# EAGLE library part MAX889RESA (library MAX889RESA)
Check prices <https://pricing.snapeda.com/parts/MAX889RESA%2B/Maxim%20Integrated/view-part?ref=eda>
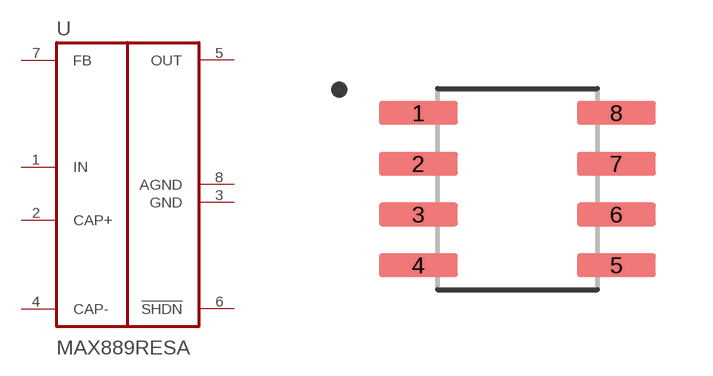
[diagram p0: symbol with the pads of SOIC127P600X175-8N; footprint SOIC127P600X175-8N]

Designator prefix U

## MAX889RESA (AVAILABILITY: In Stock; DESCRIPTION: Charge Pump Switching Regulator IC Negative Adjustable -2.5V 1 Output 200mA 8-SOIC (0.154, 3.90mm Width); MF: Maxim Integrated; MP: MAX889RESA+; PACKAGE: SOIC-8 Maxim; PRICE: None)  [SOIC127P600X175-8N]
1  IN  in
2  CAP+
3  GND  pwr
4  CAP-
5  OUT  out
6  !SHDN  in
7  FB  in
8  AGND  pwr

## Footprint SOIC127P600X175-8N (pad centres in mm)
smd 1.97 x 0.59: 1 -2.475,1.905; 2 -2.475,0.635; 3 -2.475,-0.635; 4 -2.475,-1.905; 5 2.475,-1.905; 6 2.475,-0.635; 7 2.475,0.635; 8 2.475,1.905